# EAGLE library part CONNECTOR-12 (library HyTechDevices)
Mini-Fit Junior connector 12 pole Source: http://www.molex.com
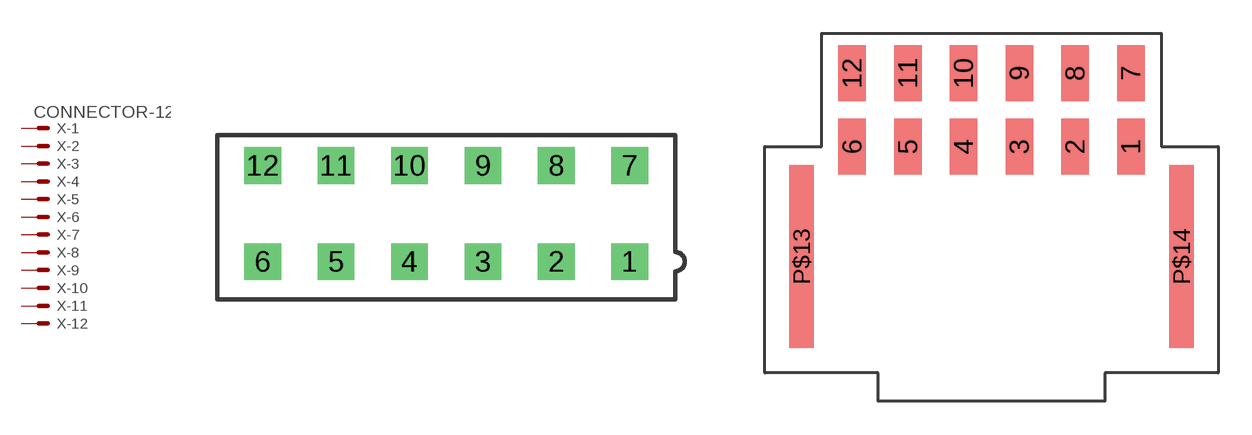
[diagram p24: symbol with the pads of MINIFIT_5566-12; footprints MINIFIT_5566-12, NANO-FIT_RIGHT_ANGLE-12-SURFACE]

Designator prefix X; gates -1=MV -2=M -3=M -4=M -5=M -6=M -7=M -8=M -9=M -10=M -11=M -12=M

## CONNECTOR-12 (OC_FARNELL: unknown; OC_NEWARK: unknown)  [MINIFIT_5566-12]
1  -1:S  pas
2  -2:S  pas
3  -3:S  pas
4  -4:S  pas
5  -5:S  pas
6  -6:S  pas
7  -7:S  pas
8  -8:S  pas
9  -9:S  pas
10  -10:S  pas
11  -11:S  pas
12  -12:S  pas

## CONNECTOR-12NANO-FIT_RIGHT_ANGLE-12-SURFACE  [NANO-FIT_RIGHT_ANGLE-12-SURFACE]
Pads as for MINIFIT_5566-12

## CONNECTOR-12DURACLIK_RIGHT_ANGLE-12  [DURACLIK_RIGHT_ANGLE-12]
Pads as for MINIFIT_5566-12

## CONNECTOR-12DURACLIK_VERTICAL-12  [DURACLIK_VERTICAL-12]
Pads as for MINIFIT_5566-12

## CONNECTOR-12NANO-FIT_VERTICAL-12  [NANO-FIT_VERTICAL-12]
P$1  -1:S  pas
P$2  -2:S  pas
P$3  -3:S  pas
P$4  -4:S  pas
P$5  -5:S  pas
P$6  -6:S  pas
P$7  -7:S  pas
P$8  -8:S  pas
P$9  -9:S  pas
P$10  -10:S  pas
P$11  -11:S  pas
P$12  -12:S  pas

## Footprint MINIFIT_5566-12 (pad centres in mm)
Mini-Fit Junior connector 12 pole Source: http://www.molex.com
drill 1.4 square: 1 10.5,-2.75; 2 6.3,-2.75; 3 2.1,-2.75; 4 -2.1,-2.75; 5 -6.3,-2.75; 6 -10.5,-2.75; 7 10.5,2.75; 8 6.3,2.75; 9 2.1,2.75; 10 -2.1,2.75; 11 -6.3,2.75; 12 -10.5,2.75

## Footprint NANO-FIT_RIGHT_ANGLE-12-SURFACE (pad centres in mm)
smd 1.24 x 2.5: 1 6.25,0; 2 3.75,0; 3 1.25,0; 4 -1.25,0; 5 -3.75,0; 6 -6.25,0; 7 6.25,3.3; 8 3.75,3.3; 9 1.25,3.3; 10 -1.25,3.3; 11 -3.75,3.3; 12 -6.25,3.3
smd 1.1 x 8.2: P$13 -8.52,-4.93; P$14 8.52,-4.93

## Footprint DURACLIK_RIGHT_ANGLE-12 (pad centres in mm)
smd 1.2 x 3.2: 1 11,8.13; 2 9,8.13; 3 7,8.13; 4 5,8.13; 5 3,8.13; 6 1,8.13; 7 -1,8.13; 8 -3,8.13; 9 -5,8.13; 10 -7,8.13; 11 -9,8.13; 12 -11,8.13
smd 1.7 x 5.3: P$1 13.55,2.65; P$2 -13.55,2.65

## Footprint DURACLIK_VERTICAL-12 (pad centres in mm)
smd 1.2 x 2.2: 1 11,7.68; 2 9,7.68; 3 7,7.68; 4 5,7.68; 5 3,7.68; 6 1,7.68; 7 -1,7.68; 8 -3,7.68; 9 -5,7.68; 10 -7,7.68; 11 -9,7.68; 12 -11,7.68
smd 2 x 4.2: P$1 14.6,2.1; P$2 -14.6,2.1

## Footprint NANO-FIT_VERTICAL-12 (pad centres in mm)
drill 1.2: P$1 -6.25,0; P$2 -3.75,0; P$3 -1.25,0; P$4 1.25,0; P$5 3.75,0; P$6 6.25,0; P$7 -6.25,2.5; P$8 -3.75,2.5; P$9 -1.25,2.5; P$10 1.25,2.5; P$11 3.75,2.5; P$12 6.25,2.5
hole 1.3 at 0,-1.34